# Altium footprint library Wurth_Elektronik_Passive_rev16a.PCBLIB: 810 footprints (part 5 of 51)
Each footprint in its own frame and in the unit in brackets; x right, y up, seen from the top. Pads: shape width x height; smd on the part's side, far side on the other; paste and mask are expansions set on the pad; w line width, h text height; cw(c..) or ccw(c..) is an arc to the next point about the centre after c.
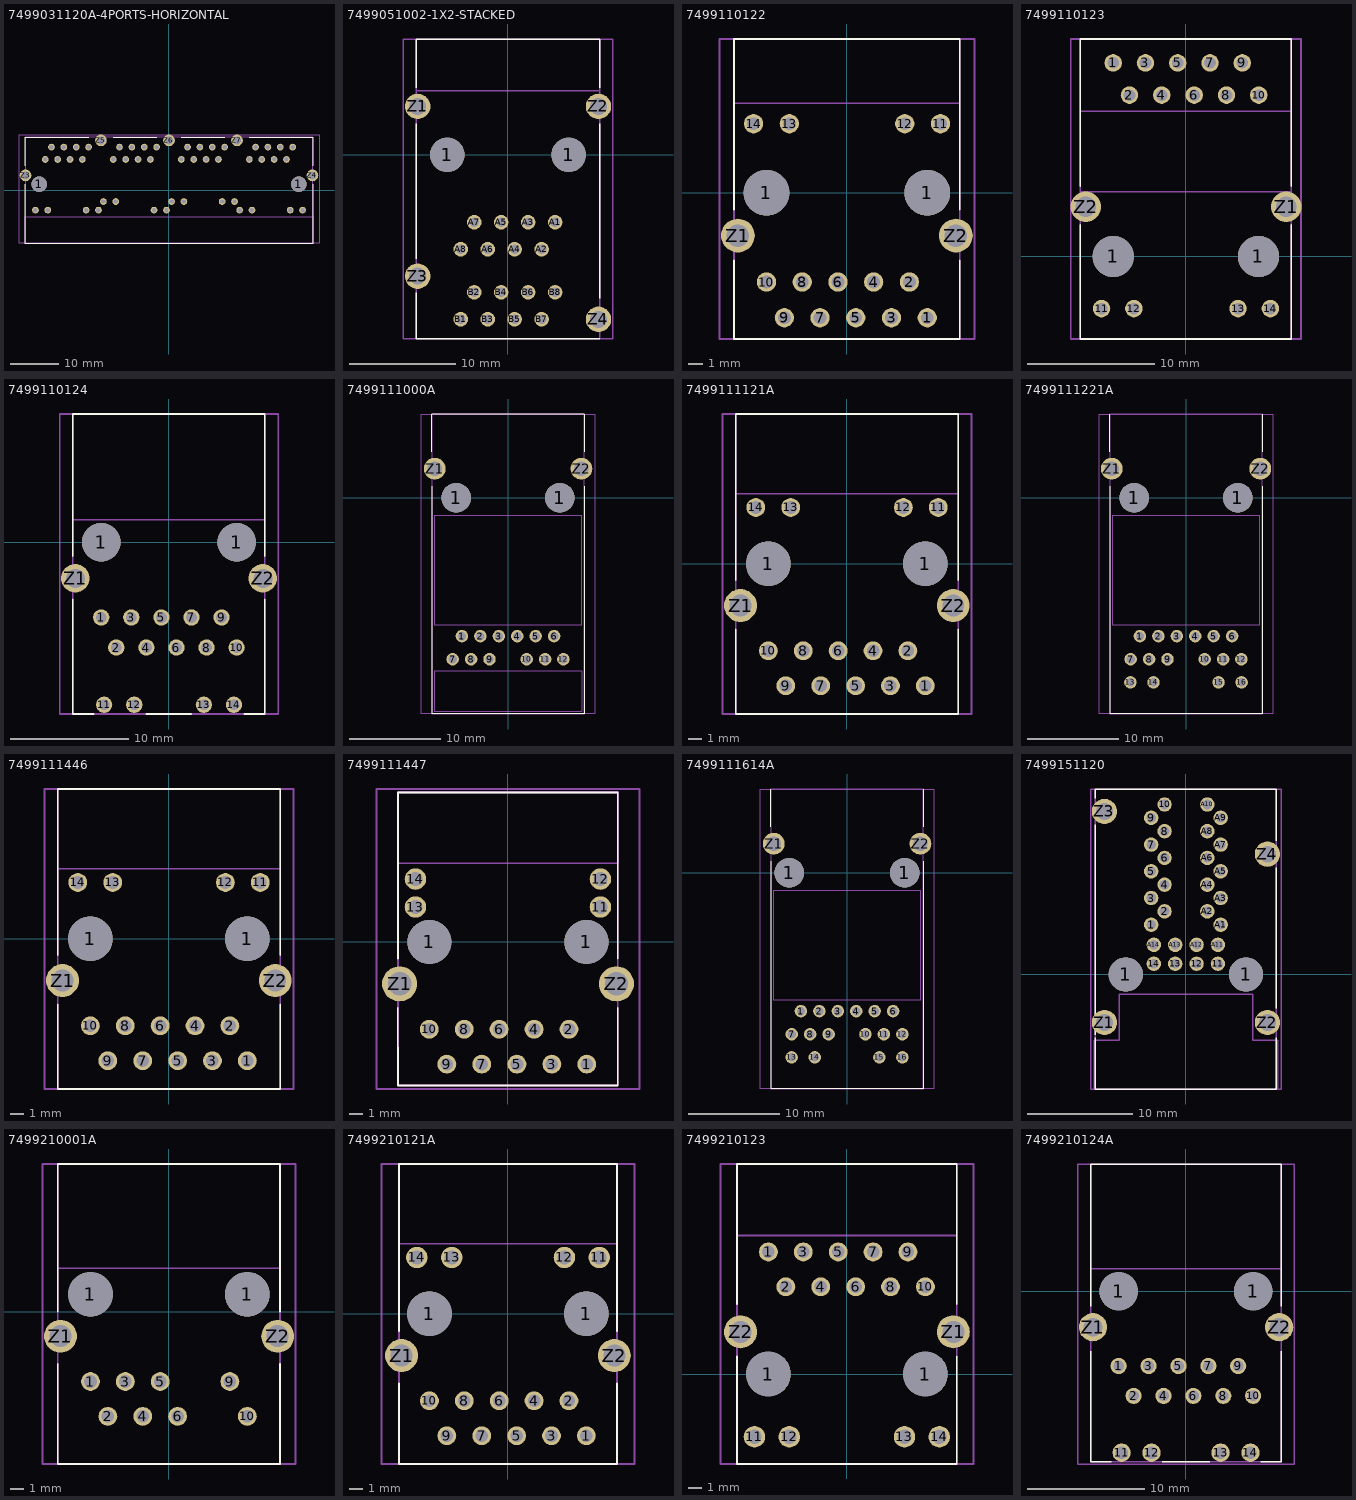
[diagram p4: the footprints below, top view; thin cyan lines are the x and y axes]

## 7499031120A-4PORTS-HORIZONTAL [mil]
pads (55):
  round 126 hole 126: 1(-1050,50) 1(1050,50)
  round 54 hole 36: A1(650,250) A2(700,350) A3(750,250) A4(800,350) A5(850,250) A6(900,350) A7(950,250) A8(1000,350) A9(430,-90.16) A10(530,-90.16) A11(980,-159.84) A12(1080,-159.84) B1(100,250) B2(150,350) B3(200,250) B4(250,350) B5(300,250) B6(350,350) B7(400,250) B8(450,350) B9(21,-90.16) B10(121,-90.16) B11(571,-159.84) B12(671,-159.84) C1(-450,250) C2(-400,350) C3(-350,250) C4(-300,350) C5(-250,250) C6(-200,350) C7(-150,250) C8(-100,350) C9(-529.92,-90.16) C10(-429.92,-90.16) C11(-120.87,-159.84) C12(-20.08,-159.84) D1(-1000,250) D2(-950,350) D3(-900,250) D4(-850,350) D5(-800,250) D6(-750,350) D7(-700,250) D8(-650,350) D9(-1079.53,-159.84) D10(-979.53,-159.84) D11(-670.08,-159.84) D12(-570.08,-159.84)
  round 94.5 hole 63: Z3(-1159.65,121) Z4(1160,121) Z5(-550,404) Z6(0,404) Z7(550,404)
Top Overlay:
  lines w5: -1164.96,-429.13 -1163.98,-429.13 ; -1163.98,50 -1163.98,-429.13 ; -1163.98,200 -1163.98,430 -650,430 ; -450,430 -100,430 ; 100,430 450,430 ; 650,430 1164,430 1164,200 ; 1164,50 1164,-429.13 ; 1165,-429.13 1164,-429.13 ; -1163.98,-429.13 1164,-429.13
Mechanical 2:
  text ">NAME" at -29.2,-481.33 h77.5
Mechanical 4:
  text ">VALUE" at 21,489 h77.5
Mechanical 10:
  lines w5: -1163.98,-429.13 1164,-429.13 1164,-212.5 -1163.98,-212.5 -1163.98,-429.13
Mechanical 16:
  lines w5: -1212.5,450 1213,450 ; -1163.98,-429.13 1164,-429.13 1164,430 -1163.98,430 -1163.98,-429.13
  text "1" at -1025,225 h49.6
  text "8" at -600,325 h49.6
  text "1" at -475,225 h49.6
  text "1" at 625,225 h49.6
  text "1" at 75,225 h49.6
  text "8" at -50,325 h49.6
  text "8" at 500,325 h49.6
  text "8" at 1050,325 h49.6
Mechanical 27:
  lines w5: -1212.5,450 -1212.5,-429.13 1213,-429.13 1213,450

## 7499051002-1X2-STACKED [mil]
pads (22):
  round 128 hole 128: 1(-225,0) 1(225,0)
  round 54 hole 36: A1(175,-250) A2(125,-350) A3(75,-250) A4(25,-350) A5(-25,-250) A6(-75,-350) A7(-125,-250) A8(-175,-350) B1(-175,-609.84) B2(-125,-509.84) B3(-75,-609.84) B4(-25,-509.84) B5(25,-609.84) B6(75,-509.84) B7(125,-609.84) B8(175,-509.84)
  round 94.5 hole 63: Z1(-335.04,180) Z2(336,180) Z3(-335.04,-450) Z4(336,-610.24)
Top Overlay:
  lines w5: -339.96,-511.81 -339.96,-683.07 340,-683.07 ; -339.96,-385.83 -339.96,115 ; -339.96,250 -339.96,430 340,430 340,250 ; 340,-531.5 340,115
Mechanical 2:
  text ">NAME" at -18.44,487 h77.5
Mechanical 4:
  text ">VALUE" at -18.44,-760.57 h77.5
Mechanical 10:
  lines w5: -339.96,238 340,238 340,430 -339.96,430 -339.96,238
Mechanical 16:
  lines w5: -339.96,-683.07 -339.96,430 340,430 340,-683.07 -339.96,-683.07
  text "1" at 250,-200 h49.6
  text "1" at -225,-625 h49.6
  text "8" at -225,-350 h49.6
  text "8" at 250,-475 h49.6
Mechanical 27:
  lines w5: -387.5,-683.07 388,-683.07 388,430 -387.5,430 -387.5,-683.07

## 7499110122 [mil]
pads (18):
  round 128 hole 128: 1(-225,0) 1(225,0)
  round 54 hole 36: 1(225,-350) 2(175,-250) 3(125,-350) 4(75,-250) 5(25,-350) 6(-25,-250) 7(-75,-350) 8(-125,-250) 9(-175,-350) 10(-225,-250) 11(262,193) 12(162,193) 13(-161.02,193) 14(-261.02,193)
  round 94.5 hole 63: Z1(-304.92,-120.08) Z2(305,-120.08)
Top Overlay:
  lines w5: -315.75,-188.98 -315.75,-409.45 316,-409.45 316,-188.98 ; -315.75,-47.24 -315.75,430 316,430 316,-47.24
Mechanical 2:
  text ">NAME" at -101.92,462 h77.5
Mechanical 4:
  text ">VALUE" at -126.92,-510.57 h77.5
Mechanical 10:
  lines w5: -315.75,250 -315.75,430 316,430 316,250 -315.75,250
Mechanical 16:
  lines w5: -315.75,-409.45 -315.75,430 316,430 316,-409.45 -315.75,-409.45
  text "1" at 250,-400 h37.2
  text "9" at -225,-400 h37.2
  text "10" at -300,-250 h37.2
  text "13" at -175,125 h37.2
  text "2" at 225,-250 h37.2
  text "11" at 250,125 h37.2
Mechanical 27:
  lines w5: -356.25,-409.45 357,-409.45 357,430 -356.25,430 -356.25,-409.45

## 7499110123 [mil]
pads (18):
  round 54 hole 36: 1(-225.2,600) 2(-174.8,500) 3(-125.2,600) 4(-74.8,500) 5(-25.2,600) 6(26,500) 7(75,600) 8(126,500) 9(175,600) 10(226,500) 11(-261.22,-161.81) 12(-161.22,-161.81) 13(162,-161.81) 14(262,-161.81)
  round 128 hole 128: 1(-225,0) 1(225,0)
  round 94.5 hole 63: Z1(311,154) Z2(-310.04,154)
Top Overlay:
  lines w5: -326.77,98 -326.77,-255.91 327,-255.91 327,98 ; -326.77,217 -326.77,674 327,674 327,217
Mechanical 2:
  text ">NAME" at 152,-311.37 h77.5
Mechanical 4:
  text ">VALUE" at 127,761 h77.5
Mechanical 10:
  lines w5: -326.77,200 -326.77,450 327,450 327,200 -326.77,200
Mechanical 16:
  lines w5: -326.77,-255.91 -326.77,674 327,674 327,-255.91 -326.77,-255.91
  text "1" at -250,650 h37.2
  text "9" at 225,650 h37.2
  text "10" at 300,500 h37.2
  text "13" at 175,-225 h37.2
  text "2" at -225,500 h37.2
  text "11" at -250,-225 h37.2
Mechanical 27:
  lines w5: -356.25,-255.91 357,-255.91 357,674 -356.25,674 -356.25,-255.91

## 7499110124 [mil]
pads (18):
  round 54 hole 36: 1(-225,-250) 2(-175,-350) 3(-125,-250) 4(-75,-350) 5(-25,-250) 6(25,-350) 7(75,-250) 8(125,-350) 9(175,-250) 10(225,-350) 11(-215.16,-540.16) 12(-115.16,-540.16) 13(116,-540.16) 14(216,-540.16)
  round 128 hole 128: 1(-225,0) 1(225,0)
  round 94.5 hole 63: Z1(-311.02,-120.08) Z2(312,-120.08)
Top Overlay:
  lines w5: -318.9,-188.98 -318.9,-570.87 -250,-570.87 ; -318.9,-47.24 -318.9,426 319,426 319,-47.24 ; -75,-570.87 75,-570.87 ; 250,-570.87 319,-570.87 319,-188.98
Mechanical 2:
  text ">NAME" at -101.92,462 h77.5
Mechanical 4:
  text ">VALUE" at -126.92,-660.57 h77.5
Mechanical 10:
  lines w5: -318.9,75 -318.9,426 319,426 319,75 -318.9,75
Mechanical 16:
  lines w5: -318.9,-570.87 -318.9,426 319,426 319,-570.87 -318.9,-570.87
  text "1" at -275,-225 h37.2
  text "9" at 225,-225 h37.2
  text "10" at 250,-425 h37.2
  text "6" at 25,-425 h37.2
  text "13" at 100,-500 h37.2
  text "2" at -225,-425 h37.2
  text "11" at -250,-500 h37.2
Mechanical 27:
  lines w5: -362.5,-570.87 363,-570.87 363,426 -362.5,426 -362.5,-570.87

## 7499111000A [mil]
pads (16):
  round 128 hole 128: 1(-225,0) 1(225,0)
  round 54 hole 36: 1(-199.8,-600) 2(-119.88,-600) 3(-39.96,-600) 4(40,-600) 5(120,-600) 6(200,-600) 7(-239.96,-700) 8(-160.04,-700) 9(-80.12,-700) 10(81,-700) 11(161,-700) 12(240,-700)
  round 94.5 hole 63: Z1(-317.52,126) Z2(318,126)
Top Overlay:
  lines w5: -330.51,50 -330.51,-937.4 331,-937.4 331,50 ; -330.51,200 -330.51,363 331,363 331,200
Mechanical 2:
  text ">NAME" at -101.92,387 h77.5
Mechanical 4:
  text ">VALUE" at -126.92,-1010.57 h77.5
Mechanical 10:
  lines w5: -318.9,-926.77 319,-926.77 ; -318.9,-925.98 -318.9,-751.97 ; -318.9,-751.77 319,-751.77 ; 319,-925.98 319,-751.97 ; -318.9,-550 -318.9,-76.77 -318.9,-75 319,-75 319,-550 -318.9,-550
Mechanical 16:
  lines w5: -330.51,-937.4 -330.51,363 331,363 331,-937.4 -330.51,-937.4
  text "1" at -250,-600 h37.2
  text "9" at -50,-750 h37.2
  text "10" at 25,-750 h37.2
  text "6" at 250,-600 h37.2
Mechanical 27:
  lines w5: -375,-937.4 375,-937.4 375,363 -375,363 -375,-937.4

## 7499111121A [mil]
pads (18):
  round 128 hole 128: 1(-225,0) 1(225,0)
  round 54 hole 36: 1(225,-350) 2(175,-250) 3(125,-350) 4(75,-250) 5(25,-350) 6(-25,-250) 7(-75,-350) 8(-125,-250) 9(-175,-350) 10(-225,-250) 11(262,161) 12(162,161) 13(-161.02,161) 14(-261.02,161)
  round 94.5 hole 63: Z1(-304.92,-120.08) Z2(305,-120.08)
Top Overlay:
  lines w5: -318.9,-188.98 -318.9,-431.1 319,-431.1 319,-188.98 ; -318.9,-47.24 -318.9,429 319,429 319,-47.24
Mechanical 2:
  text ">NAME" at -101.92,462 h77.5
Mechanical 4:
  text ">VALUE" at -126.92,-510.57 h77.5
Mechanical 10:
  lines w5: -318.9,200 -318.9,429 319,429 319,200 -318.9,200
Mechanical 16:
  lines w5: -318.9,-431.1 -318.9,429 319,429 319,-431.1 -318.9,-431.1
  text "1" at 275,-425 h37.2
  text "9" at -225,-425 h37.2
  text "10" at -300,-225 h37.2
  text "13" at -150,200 h37.2
  text "2" at 225,-225 h37.2
  text "11" at 250,200 h37.2
Mechanical 27:
  lines w5: -356.25,-431.1 357,-431.1 357,429 -356.25,429 -356.25,-431.1

## 7499111221A [mil]
pads (20):
  round 128 hole 128: 1(-225,0) 1(225,0)
  round 54 hole 36: 1(-199.8,-600) 2(-119.88,-600) 3(-39.96,-600) 4(40,-600) 5(120,-600) 6(200,-600) 7(-239.96,-700) 8(-160.04,-700) 9(-80.12,-700) 10(81,-700) 11(161,-700) 12(240,-700) 13(-240.94,-800) 14(-140.94,-800) 15(141,-800) 16(241,-800)
  round 94.5 hole 63: Z1(-321.85,126) Z2(322,126)
Top Overlay:
  lines w5: -330.51,50 -330.51,-937.4 331,-937.4 331,50 ; -330.51,200 -330.51,363 ; 331,200 331,363
Mechanical 2:
  text ">NAME" at -101.92,387 h77.5
Mechanical 4:
  text ">VALUE" at -126.92,-1010.57 h77.5
Mechanical 10:
  lines w5: 319,-75 319,-76.77 ; 319,-76.77 319,-550 -318.9,-550 -318.9,-76.77 319,-76.77
Mechanical 16:
  lines w5: -330.51,-937.4 -330.51,363 331,363 331,-937.4 -330.51,-937.4
  text "1" at -250,-600 h37.2
  text "9" at -50,-750 h37.2
  text "10" at 25,-750 h37.2
  text "6" at 250,-600 h37.2
  text "13" at -300,-850 h37.2
  text "16" at 200,-850 h37.2
Mechanical 27:
  lines w5: -375,-937.4 375,-937.4 375,363 -375,363 -375,-937.4

## 7499111446 [mil]
pads (18):
  round 128 hole 128: 1(-225,0) 1(225,0)
  round 54 hole 36: 1(225,-350) 2(175,-250) 3(125,-350) 4(75,-250) 5(25,-350) 6(-25,-250) 7(-75,-350) 8(-125,-250) 9(-175,-350) 10(-225,-250) 11(262,161) 12(162,161) 13(-161.02,161) 14(-261.02,161)
  round 94.5 hole 63: Z1(-304.92,-120.08) Z2(305,-120.08)
Top Overlay:
  lines w5: -318.9,-188.98 -318.9,-431.1 319,-431.1 319,-188.98 ; -318.9,-47.24 -318.9,429 319,429 319,-47.24
Mechanical 2:
  text ">NAME" at -101.92,462 h77.5
Mechanical 4:
  text ">VALUE" at -126.92,-510.57 h77.5
Mechanical 10:
  lines w5: -318.9,200 -318.9,429 319,429 319,200 -318.9,200
Mechanical 16:
  lines w5: -318.9,-431.1 -318.9,429 319,429 319,-431.1 -318.9,-431.1
  text "1" at 275,-400 h37.2
  text "9" at -225,-400 h37.2
  text "10" at -300,-225 h37.2
  text "13" at -150,200 h37.2
  text "2" at 225,-225 h37.2
  text "11" at 250,200 h37.2
Mechanical 27:
  lines w5: -356.25,-431.1 357,-431.1 357,429 -356.25,429 -356.25,-431.1

## 7499111447 [mil]
pads (18):
  round 126 hole 126: 1(-225,0) 1(225,0)
  round 54 hole 36: 1(226,-350) 2(175,-250) 3(126,-350) 4(75,-250) 5(26,-350) 6(-25.2,-250) 7(-74.8,-350) 8(-125.2,-250) 9(-174.8,-350) 10(-225.2,-250)
  round 61.5 hole 41: 11(265,100) 12(265,180) 13(-264.76,100) 14(-264.76,180)
  round 100.5 hole 67: Z1(-310.04,-120.08) Z2(311,-120.08)
Top Overlay:
  lines w5: -315.75,-188.98 -314.96,-411.42 315,-411.42 315,-188.98 ; -314.96,-47.24 -314.96,428 315,428 315,-47.24
Mechanical 2:
  text ">NAME" at -101.92,462 h77.5
Mechanical 4:
  text ">VALUE" at -126.92,-510.57 h77.5
Mechanical 10:
  lines w5: -315.75,225 -315.75,430 316,430 316,225 -315.75,225
Mechanical 16:
  lines w5: -314.96,-411.42 -314.96,428 315,428 315,-411.42 -314.96,-411.42
  text "1" at 250,-400 h37.2
  text "9" at -225,-400 h37.2
  text "10" at -300,-225 h37.2
  text "13" at -225,100 h37.2
  text "2" at 226,-225 h37.2
  text "11" at 175,100 h37.2
Mechanical 27:
  lines w5: -376.38,-421.26 377,-421.26 377,438 -376.38,438 -376.38,-421.26

## 7499111614A [mil]
pads (20):
  round 128 hole 128: 1(-250,0) 1(250,0)
  round 54 hole 36: 1(-199.8,-600) 2(-119.88,-600) 3(-39.96,-600) 4(40,-600) 5(120,-600) 6(200,-600) 7(-239.57,-700) 8(-159.65,-700) 9(-79.72,-700) 10(80,-700) 11(160,-700) 12(240,-700) 13(-239.76,-800) 14(-139.76,-800) 15(140,-800) 16(240,-800)
  round 94.5 hole 63: Z1(-317.52,126) Z2(318,126)
Top Overlay:
  lines w5: -330.51,50 -330.51,-937.4 331,-937.4 331,50 ; -330.51,200 -330.51,363 ; 331,200 331,363
Mechanical 2:
  text ">NAME" at -101.92,387 h77.5
Mechanical 4:
  text ">VALUE" at -126.92,-1010.57 h77.5
Mechanical 10:
  lines w5: 319,-75 319,-76.77 ; 319,-76.77 319,-550 -318.9,-550 -318.9,-76.77 319,-76.77
Mechanical 16:
  lines w5: -330.51,-937.4 -330.51,363 331,363 331,-937.4 -330.51,-937.4
  text "1" at -250,-600 h37.2
  text "9" at -50,-750 h37.2
  text "10" at 25,-750 h37.2
  text "6" at 250,-600 h37.2
  text "13" at -300,-850 h37.2
  text "16" at 200,-850 h37.2
Mechanical 27:
  lines w5: -375,-937.4 375,-937.4 375,363 -375,363 -375,-937.4

## 7499151120 [mil]
pads (34):
  round 128 hole 128: 1(-225,0) 1(225,0)
  round 54 hole 36: 1(-129.92,186) 2(-79.92,236) 3(-129.92,286) 4(-79.92,336) 5(-129.92,386) 6(-79.92,436) 7(-129.92,486) 8(-79.92,536) 9(-129.92,586) 10(-79.92,636) 11(120,40) 12(40,40) 13(-39.96,40) 14(-119.88,40) A1(130,186) A2(80,236) A3(130,286) A4(80,336) A5(130,386) A6(80,436) A7(130,486) A8(80,536) A9(130,586) A10(80,636) A11(120,111) A12(40,111) A13(-39.96,111) A14(-119.88,111)
  round 94.5 hole 63: Z1(-304.92,-179.92) Z2(305,-179.92) Z3(-304.92,610) Z4(305,450)
Top Overlay:
  lines w5: -338.78,-236.22 -338.78,-428.74 339,-428.74 339,-236.22 ; -338.78,-225.98 -338.78,560 ; -338.78,660 -338.78,694 339,694 339,500 ; 339,-125.98 339,400
Mechanical 2:
  text ">NAME" at -101.92,712 h77.5
Mechanical 4:
  text ">VALUE" at -126.92,-485.57 h77.5
Mechanical 10:
  lines w5: -343.9,-428.74 -343.9,-246.26 -250,-246.26 -250,-75 250,-75 250,-246.26 344,-246.26 344,-428.74 -343.9,-428.74
Mechanical 16:
  lines w5: -338.78,-428.74 -338.78,694 339,694 339,-428.74 -338.78,-428.74
  text "10" at 125,650 h37.2
  text "10" at -150,650 h37.2
  text "1" at 175,175 h37.2
  text "1" at -200,175 h37.2
  text "2" at 15,221 h37.2
  text "2" at -35.04,221 h37.2
  text "13" at -50,-25 h37.2
  text "11" at 100,-25 h37.2
  text "9" at -200,575 h37.2
  text "9" at 175,575 h37.2
Mechanical 27:
  lines w5: -356.25,-428.74 357,-428.74 357,694 -356.25,694 -356.25,-428.74

## 7499210001A [mil]
pads (12):
  round 54 hole 36: 1(-225,-200) 2(-175,-300) 3(-125,-200) 4(-75,-300) 5(-25,-200) 6(25,-300) 9(175,-200) 10(225,-300)
  round 128 hole 128: 1(-225,50) 1(225,50)
  round 94.5 hole 63: Z1(-311.02,-70.08) Z2(312,-70.08)
Top Overlay:
  lines w5: -318.9,-150 -318.9,-436.61 319,-436.61 319,-150 ; -318.9,0 -318.9,424 319,424 319,0
Mechanical 2:
  text ">NAME" at -101.92,437 h77.5
Mechanical 4:
  text ">VALUE" at -101.92,-510.57 h77.5
Mechanical 10:
  lines w5: -318.9,125 -318.9,424 319,424 319,125 -318.9,125
Mechanical 16:
  lines w5: -318.9,-436.61 -318.9,424 319,424 319,-436.61 -318.9,-436.61
  text "1" at -275,-175 h37.2
  text "9" at 225,-175 h37.2
  text "10" at 250,-350 h37.2
  text "2" at -225,-350 h37.2
Mechanical 27:
  lines w5: -362.5,-436.61 363,-436.61 363,424 -362.5,424 -362.5,-436.61

## 7499210121A [mil]
pads (18):
  round 128 hole 128: 1(-225,0) 1(225,0)
  round 54 hole 36: 1(225,-350) 2(175,-250) 3(125,-350) 4(75,-250) 5(25,-350) 6(-25,-250) 7(-75,-350) 8(-125,-250) 9(-175,-350) 10(-225,-250)
  round 61.5 hole 41: 11(262,161) 12(162,161) 13(-161.02,161) 14(-261.02,161)
  round 94.5 hole 63: Z1(-304.92,-120.08) Z2(305,-120.08)
Top Overlay:
  lines w5: -312.6,-200 -312.6,-431.1 313,-431.1 313,-200 ; -312.6,-50 -312.6,429 313,429 313,-50
Mechanical 2:
  text ">NAME" at -151.92,487 h77.5
Mechanical 4:
  text ">VALUE" at -101.92,-510.57 h77.5
Mechanical 10:
  lines w5: -312.6,200 -312.6,429 313,429 313,200 -312.6,200
Mechanical 16:
  lines w5: -312.6,-431.1 -312.6,429 313,429 313,-431.1 -312.6,-431.1
  text "1" at 250,-325 h49.6
  text "10" at -300,-225 h49.6
Mechanical 27:
  lines w5: -362.5,-431.1 363,-431.1 363,429 -362.5,429 -362.5,-431.1

## 7499210123 [mil]
pads (18):
  round 128 hole 128: 1(-225,0) 1(225,0)
  round 54 hole 36: 1(-225,350) 2(-175,250) 3(-125,350) 4(-75,250) 5(-25,350) 6(25,250) 7(75,350) 8(125,250) 9(175,350) 10(225,250)
  round 61.5 hole 41: 11(-264.96,-179.92) 12(-164.96,-179.92) 13(165,-179.92) 14(265,-179.92)
  round 94.5 hole 63: Z1(305,121) Z2(-304.92,121)
Top Overlay:
  lines w5: -314.96,50 -314.96,-257.87 315,-257.87 315,50 ; -314.96,200 -314.96,602 315,602 315,200
Mechanical 2:
  text ">NAME" at 102,-286.37 h77.5
Mechanical 4:
  text ">VALUE" at 152,661 h77.5
Mechanical 10:
  lines w5: -314.96,397 -314.96,602 315,602 315,397 -314.96,397
Mechanical 16:
  lines w5: -314.96,-257.87 -314.96,602 315,602 315,-257.87 -314.96,-257.87
  text "1" at -250,325 h49.6
  text "10" at 300,225 h49.6
Mechanical 27:
  lines w5: -362.5,-257.87 363,-257.87 363,602 -362.5,602 -362.5,-257.87

## 7499210124A [mil]
pads (18):
  round 54 hole 36: 1(-225,-250) 2(-175,-350) 3(-125,-250) 4(-75,-350) 5(-25,-250) 6(25,-350) 7(75,-250) 8(125,-350) 9(175,-250) 10(225,-350)
  round 128 hole 128: 1(-225,0) 1(225,0)
  round 61.5 hole 41: 11(-215.16,-540.16) 12(-115.16,-540.16) 13(116,-540.16) 14(216,-540.16)
  round 94.5 hole 63: Z1(-311.02,-120.08) Z2(312,-120.08)
Top Overlay:
  lines w5: -318.9,-200 -318.9,-570.87 -250,-570.87 ; -318.9,-50 -318.9,426 319,426 319,-50 ; -78.74,-570.87 79,-570.87 ; 250,-570.87 319,-570.87 319,-200
Mechanical 2:
  text ">NAME" at -151.92,437 h77.5
Mechanical 4:
  text ">VALUE" at -151.92,-660.57 h77.5
Mechanical 10:
  lines w5: -318.9,75 -318.9,426 319,426 319,75 -318.9,75
Mechanical 16:
  lines w5: -318.9,-570.87 -318.9,426 319,426 319,-570.87 -318.9,-570.87
  text "1" at -275,-250 h37.2
  text "9" at 225,-225 h37.2
  text "10" at 250,-400 h37.2
  text "2" at -225,-400 h37.2
Mechanical 27:
  lines w5: -325,425 -318.9,426 ; -362.5,-578.05 363,-578.05 363,426 -362.5,426 -362.5,-578.05